# Altium integrated library con-lsta.IntLib: 47 symbols
Pins are listed as number, name and electrical type; pins without a type are passive.

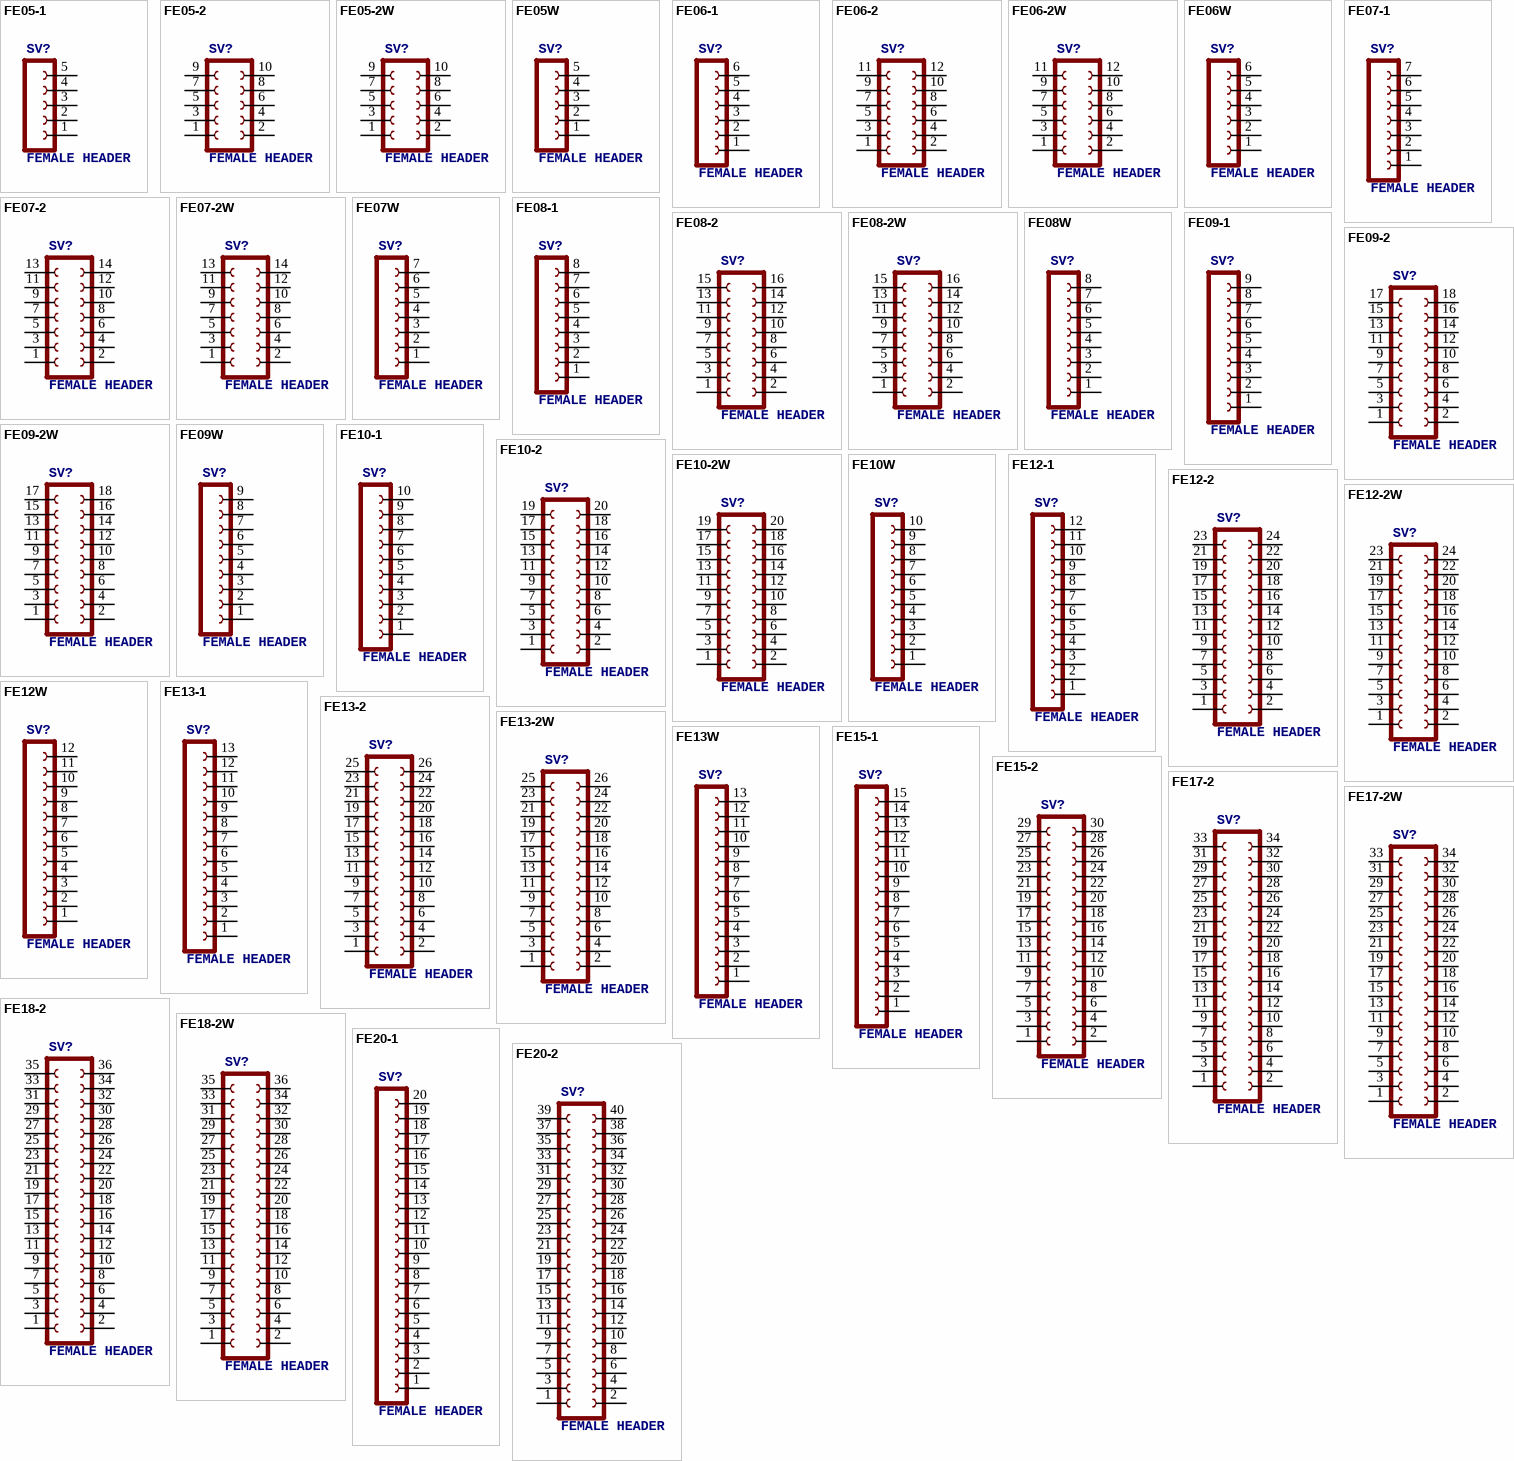
[diagram p0: symbols FE05-1 to FE20-2]

## FE05-1
designator SV?, comment FEMALE HEADER
OC_FARNELL: unknown; OC_NEWARK: unknown
footprint FE05-1
pins: 1, 2, 3, 4, 5

## FE05-2
designator SV?, comment FEMALE HEADER
OC_FARNELL: unknown; OC_NEWARK: unknown
footprint FE05-2
pins: 1, 2, 3, 4, 5, 6, 7, 8, 9, 10

## FE05-2W
designator SV?, comment FEMALE HEADER
OC_FARNELL: unknown; OC_NEWARK: unknown
footprint FE05-2W
pins: 1, 2, 3, 4, 5, 6, 7, 8, 9, 10

## FE05W
designator SV?, comment FEMALE HEADER
OC_FARNELL: unknown; OC_NEWARK: unknown
footprint FE05W
pins: 1, 2, 3, 4, 5

## FE06-1
designator SV?, comment FEMALE HEADER
OC_FARNELL: unknown; OC_NEWARK: unknown
footprint FE06
pins: 1, 2, 3, 4, 5, 6

## FE06-2
designator SV?, comment FEMALE HEADER
OC_FARNELL: unknown; OC_NEWARK: unknown
footprint FE06-2
pins: 1, 2, 3, 4, 5, 6, 7, 8, 9, 10, 11, 12

## FE06-2W
designator SV?, comment FEMALE HEADER
OC_FARNELL: unknown; OC_NEWARK: unknown
footprint FE06-2W
pins: 1, 2, 3, 4, 5, 6, 7, 8, 9, 10, 11, 12

## FE06W
designator SV?, comment FEMALE HEADER
OC_FARNELL: unknown; OC_NEWARK: unknown
footprint FE06W
pins: 1, 2, 3, 4, 5, 6

## FE07-1
designator SV?, comment FEMALE HEADER
OC_FARNELL: unknown; OC_NEWARK: unknown
footprint FE07
pins: 1, 2, 3, 4, 5, 6, 7

## FE07-2
designator SV?, comment FEMALE HEADER
OC_FARNELL: unknown; OC_NEWARK: unknown
footprint FE07-2
pins: 1, 2, 3, 4, 5, 6, 7, 8, 9, 10, 11, 12, 13, 14

## FE07-2W
designator SV?, comment FEMALE HEADER
OC_FARNELL: unknown; OC_NEWARK: unknown
footprint FE07-2W
pins: 1, 2, 3, 4, 5, 6, 7, 8, 9, 10, 11, 12, 13, 14

## FE07W
designator SV?, comment FEMALE HEADER
OC_FARNELL: unknown; OC_NEWARK: unknown
footprint FE07W
pins: 1, 2, 3, 4, 5, 6, 7

## FE08-1
designator SV?, comment FEMALE HEADER
OC_FARNELL: unknown; OC_NEWARK: unknown
footprint FE08
pins: 1, 2, 3, 4, 5, 6, 7, 8

## FE08-2
designator SV?, comment FEMALE HEADER
OC_FARNELL: unknown; OC_NEWARK: unknown
footprint FE08-2
pins: 1, 2, 3, 4, 5, 6, 7, 8, 9, 10, 11, 12, 13, 14, 15, 16

## FE08-2W
designator SV?, comment FEMALE HEADER
OC_FARNELL: unknown; OC_NEWARK: unknown
footprint FE08-2W
pins: 1, 2, 3, 4, 5, 6, 7, 8, 9, 10, 11, 12, 13, 14, 15, 16

## FE08W
designator SV?, comment FEMALE HEADER
OC_FARNELL: unknown; OC_NEWARK: unknown
footprint FE08W
pins: 1, 2, 3, 4, 5, 6, 7, 8

## FE09-1
designator SV?, comment FEMALE HEADER
OC_FARNELL: unknown; OC_NEWARK: unknown
footprint FE09
pins: 1, 2, 3, 4, 5, 6, 7, 8, 9

## FE09-2
designator SV?, comment FEMALE HEADER
OC_FARNELL: unknown; OC_NEWARK: unknown
footprint FE09-2
pins: 1, 2, 3, 4, 5, 6, 7, 8, 9, 10, 11, 12, 13, 14, 15, 16, 17, 18

## FE09-2W
designator SV?, comment FEMALE HEADER
OC_FARNELL: unknown; OC_NEWARK: unknown
footprint FE09-2W
pins: 1, 2, 3, 4, 5, 6, 7, 8, 9, 10, 11, 12, 13, 14, 15, 16, 17, 18

## FE09W
designator SV?, comment FEMALE HEADER
OC_FARNELL: unknown; OC_NEWARK: unknown
footprint FE09W
pins: 1, 2, 3, 4, 5, 6, 7, 8, 9

## FE10-1
designator SV?, comment FEMALE HEADER
OC_FARNELL: unknown; OC_NEWARK: unknown
footprint FE10
pins: 1, 2, 3, 4, 5, 6, 7, 8, 9, 10

## FE10-2
designator SV?, comment FEMALE HEADER
OC_FARNELL: unknown; OC_NEWARK: unknown
footprint FE10-2
pins: 1, 2, 3, 4, 5, 6, 7, 8, 9, 10, 11, 12, 13, 14, 15, 16, 17, 18, 19, 20

## FE10-2W
designator SV?, comment FEMALE HEADER
OC_FARNELL: unknown; OC_NEWARK: unknown
footprint FE10-2W
pins: 1, 2, 3, 4, 5, 6, 7, 8, 9, 10, 11, 12, 13, 14, 15, 16, 17, 18, 19, 20

## FE10W
designator SV?, comment FEMALE HEADER
OC_FARNELL: unknown; OC_NEWARK: unknown
footprint FE10W
pins: 1, 2, 3, 4, 5, 6, 7, 8, 9, 10

## FE12-1
designator SV?, comment FEMALE HEADER
OC_FARNELL: unknown; OC_NEWARK: unknown
footprint FE12
pins: 1, 2, 3, 4, 5, 6, 7, 8, 9, 10, 11, 12

## FE12-2
designator SV?, comment FEMALE HEADER
OC_FARNELL: unknown; OC_NEWARK: unknown
footprint FE12-2
pins: 1, 2, 3, 4, 5, 6, 7, 8, 9, 10, 11, 12, 13, 14, 15, 16, 17, 18, 19, 20, 21, 22, 23, 24

## FE12-2W
designator SV?, comment FEMALE HEADER
OC_FARNELL: unknown; OC_NEWARK: unknown
footprint FE12-2W
pins: 1, 2, 3, 4, 5, 6, 7, 8, 9, 10, 11, 12, 13, 14, 15, 16, 17, 18, 19, 20, 21, 22, 23, 24

## FE12W
designator SV?, comment FEMALE HEADER
OC_FARNELL: unknown; OC_NEWARK: unknown
footprint FE12W
pins: 1, 2, 3, 4, 5, 6, 7, 8, 9, 10, 11, 12

## FE13-1
designator SV?, comment FEMALE HEADER
OC_FARNELL: unknown; OC_NEWARK: unknown
footprint FE13
pins: 1, 2, 3, 4, 5, 6, 7, 8, 9, 10, 11, 12, 13

## FE13-2
designator SV?, comment FEMALE HEADER
OC_FARNELL: unknown; OC_NEWARK: unknown
footprint FE13-2
pins: 1, 2, 3, 4, 5, 6, 7, 8, 9, 10, 11, 12, 13, 14, 15, 16, 17, 18, 19, 20, 21, 22, 23, 24, 25, 26

## FE13-2W
designator SV?, comment FEMALE HEADER
OC_FARNELL: unknown; OC_NEWARK: unknown
footprint FE13-2W
pins: 1, 2, 3, 4, 5, 6, 7, 8, 9, 10, 11, 12, 13, 14, 15, 16, 17, 18, 19, 20, 21, 22, 23, 24, 25, 26

## FE13W
designator SV?, comment FEMALE HEADER
OC_FARNELL: unknown; OC_NEWARK: unknown
footprint FE13W
pins: 1, 2, 3, 4, 5, 6, 7, 8, 9, 10, 11, 12, 13

## FE15-1
designator SV?, comment FEMALE HEADER
OC_FARNELL: unknown; OC_NEWARK: unknown
footprint FE15
pins: 1, 2, 3, 4, 5, 6, 7, 8, 9, 10, 11, 12, 13, 14, 15

## FE15-2
designator SV?, comment FEMALE HEADER
OC_FARNELL: unknown; OC_NEWARK: unknown
footprint FE15-2
pins: 1, 2, 3, 4, 5, 6, 7, 8, 9, 10, 11, 12, 13, 14, 15, 16, 17, 18, 19, 20, 21, 22, 23, 24, 25, 26, 27, 28, 29, 30

## FE17-2
designator SV?, comment FEMALE HEADER
OC_FARNELL: unknown; OC_NEWARK: unknown
footprint FE17-2
pins: 1, 2, 3, 4, 5, 6, 7, 8, 9, 10, 11, 12, 13, 14, 15, 16, 17, 18, 19, 20, 21, 22, 23, 24, 25, 26, 27, 28, 29, 30, 31, 32, 33, 34

## FE17-2W
designator SV?, comment FEMALE HEADER
OC_FARNELL: unknown; OC_NEWARK: unknown
footprint FE17-2W
pins: 1, 2, 3, 4, 5, 6, 7, 8, 9, 10, 11, 12, 13, 14, 15, 16, 17, 18, 19, 20, 21, 22, 23, 24, 25, 26, 27, 28, 29, 30, 31, 32, 33, 34

## FE18-2
designator SV?, comment FEMALE HEADER
OC_FARNELL: unknown; OC_NEWARK: unknown
footprint FE18-2
pins: 1, 2, 3, 4, 5, 6, 7, 8, 9, 10, 11, 12, 13, 14, 15, 16, 17, 18, 19, 20, 21, 22, 23, 24, 25, 26, 27, 28, 29, 30, 31, 32, 33, 34, 35, 36

## FE18-2W
designator SV?, comment FEMALE HEADER
OC_FARNELL: unknown; OC_NEWARK: unknown
footprint FE18-2W
pins: 1, 2, 3, 4, 5, 6, 7, 8, 9, 10, 11, 12, 13, 14, 15, 16, 17, 18, 19, 20, 21, 22, 23, 24, 25, 26, 27, 28, 29, 30, 31, 32, 33, 34, 35, 36

## FE20-1
designator SV?, comment FEMALE HEADER
OC_FARNELL: unknown; OC_NEWARK: unknown
footprint FE20
pins: 1, 2, 3, 4, 5, 6, 7, 8, 9, 10, 11, 12, 13, 14, 15, 16, 17, 18, 19, 20

## FE20-2
designator SV?, comment FEMALE HEADER
OC_FARNELL: unknown; OC_NEWARK: unknown
footprint FE20-2
pins: 1, 2, 3, 4, 5, 6, 7, 8, 9, 10, 11, 12, 13, 14, 15, 16, 17, 18, 19, 20, 21, 22, 23, 24, 25, 26, 27, 28, 29, 30, 31, 32, 33, 34, 35, 36, 37, 38, 39, 40

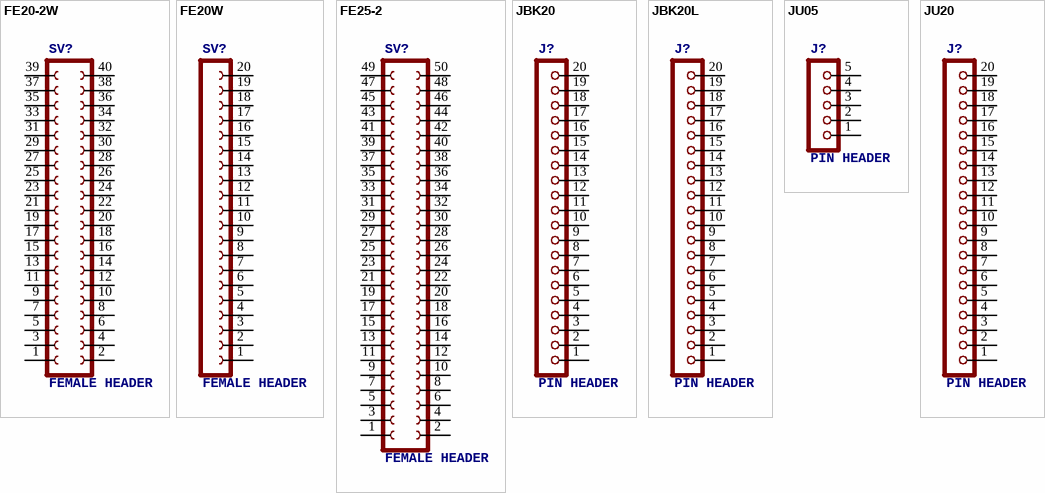
[diagram p1: symbols FE20-2W to JU20]

## FE20-2W
designator SV?, comment FEMALE HEADER
OC_FARNELL: unknown; OC_NEWARK: unknown
footprint FE20-2W
pins: 1, 2, 3, 4, 5, 6, 7, 8, 9, 10, 11, 12, 13, 14, 15, 16, 17, 18, 19, 20, 21, 22, 23, 24, 25, 26, 27, 28, 29, 30, 31, 32, 33, 34, 35, 36, 37, 38, 39, 40

## FE20W
designator SV?, comment FEMALE HEADER
OC_FARNELL: unknown; OC_NEWARK: unknown
footprint FE20W
pins: 1, 2, 3, 4, 5, 6, 7, 8, 9, 10, 11, 12, 13, 14, 15, 16, 17, 18, 19, 20

## FE25-2
designator SV?, comment FEMALE HEADER
OC_FARNELL: unknown; OC_NEWARK: unknown
footprint FE25-2
pins: 1, 2, 3, 4, 5, 6, 7, 8, 9, 10, 11, 12, 13, 14, 15, 16, 17, 18, 19, 20, 21, 22, 23, 24, 25, 26, 27, 28, 29, 30, 31, 32, 33, 34, 35, 36, 37, 38, 39, 40, 41, 42, 43, 44, 45, 46, 47, 48, 49, 50

## JBK20
designator J?, comment PIN HEADER
OC_FARNELL: unknown; OC_NEWARK: unknown
footprint JBK20
pins: 1, 2, 3, 4, 5, 6, 7, 8, 9, 10, 11, 12, 13, 14, 15, 16, 17, 18, 19, 20

## JBK20L
designator J?, comment PIN HEADER
OC_FARNELL: unknown; OC_NEWARK: unknown
footprint JBK20L
pins: 1, 2, 3, 4, 5, 6, 7, 8, 9, 10, 11, 12, 13, 14, 15, 16, 17, 18, 19, 20

## JU05
designator J?, comment PIN HEADER
OC_FARNELL: unknown; OC_NEWARK: unknown
footprint JU05
pins: 1, 2, 3, 4, 5

## JU20
designator J?, comment PIN HEADER
OC_FARNELL: unknown; OC_NEWARK: unknown
footprint JU20
pins: 1, 2, 3, 4, 5, 6, 7, 8, 9, 10, 11, 12, 13, 14, 15, 16, 17, 18, 19, 20